# Altium schematic symbol library WE-FCL.SchLib: 6 symbols
Pins are listed as number, name and electrical type; pins without a type are passive.

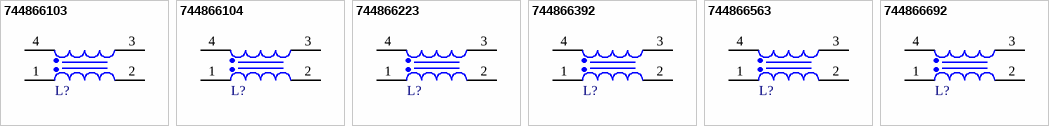
[diagram p0: symbols 744866103 to 744866692]

## 744866103
designator L?, comment 10mH  (value not drawn)
WE-FCL THT Common Mode Power Line Choke, ET35, 10mH, 3.4A, 110mΩ; Manufacturer Part Number: 744866103; Manufacturer: Wurth Elektronik; Insulation Test Voltage (AC): 1500V; Material: MnZn; Rated Voltage (AC): 250V; ComponentLink1Description: Manufacturer Link; ComponentLink1URL: https://www.we-online.com/redexpert/article/744866103?ad; ComponentLink2Description: Datasheet; ComponentLink2URL: https://www.we-online.com/redexpert/spec/744866103?ad; Category: Common Mode Chokes; Match Code: WE-FCL; Mount: Through Hole; Operating Temperature Max: 125°C; Operating Temperature Min: -40°C; Packaging: Tray; Case/Size Code: ET35; Length: 37mm; Width: 26mm; Height: 45mm; DC Resistance Max: 110mΩ; Inductance: 10mH; Rated Current: 3.4A
footprint WE-FCL_ET35
pins: 1, 2, 3, 4

## 744866104
designator L?, comment 100mH  (value not drawn)
WE-FCL THT Common Mode Power Line Choke, ET35, 100mH, 1.25A, 900mΩ; Manufacturer Part Number: 744866104; Manufacturer: Wurth Elektronik; Insulation Test Voltage (AC): 1500V; Material: MnZn; Rated Voltage (AC): 250V; ComponentLink1Description: Manufacturer Link; ComponentLink1URL: https://www.we-online.com/redexpert/article/744866104?ad; ComponentLink2Description: Datasheet; ComponentLink2URL: https://www.we-online.com/redexpert/spec/744866104?ad; Category: Common Mode Chokes; Match Code: WE-FCL; Mount: Through Hole; Operating Temperature Max: 125°C; Operating Temperature Min: -40°C; Packaging: Tray; Case/Size Code: ET35; Length: 37mm; Width: 26mm; Height: 45mm; DC Resistance Max: 900mΩ; Inductance: 100mH; Rated Current: 1.25A
footprint WE-FCL_ET35
pins: 1, 2, 3, 4

## 744866223
designator L?, comment 22mH  (value not drawn)
WE-FCL THT Common Mode Power Line Choke, ET35, 22mH, 2.5A, 200mΩ; Manufacturer Part Number: 744866223; Manufacturer: Wurth Elektronik; Insulation Test Voltage (AC): 1500V; Material: MnZn; Rated Voltage (AC): 250V; ComponentLink1Description: Manufacturer Link; ComponentLink1URL: https://www.we-online.com/redexpert/article/744866223?ad; ComponentLink2Description: Datasheet; ComponentLink2URL: https://www.we-online.com/redexpert/spec/744866223?ad; Category: Common Mode Chokes; Match Code: WE-FCL; Mount: Through Hole; Operating Temperature Max: 125°C; Operating Temperature Min: -40°C; Packaging: Tray; Case/Size Code: ET35; Length: 37mm; Width: 26mm; Height: 45mm; DC Resistance Max: 200mΩ; Inductance: 22mH; Rated Current: 2.5A
footprint WE-FCL_ET35
pins: 1, 2, 3, 4

## 744866392
designator L?, comment 3.9mH  (value not drawn)
WE-FCL THT Common Mode Power Line Choke, ET35, 3.9mH, 5A, 50mΩ; Manufacturer Part Number: 744866392; Manufacturer: Wurth Elektronik; Insulation Test Voltage (AC): 1500V; Material: MnZn; Rated Voltage (AC): 250V; ComponentLink1Description: Manufacturer Link; ComponentLink1URL: https://www.we-online.com/redexpert/article/744866392?ad; ComponentLink2Description: Datasheet; ComponentLink2URL: https://www.we-online.com/redexpert/spec/744866392?ad; Category: Common Mode Chokes; Match Code: WE-FCL; Mount: Through Hole; Operating Temperature Max: 125°C; Operating Temperature Min: -40°C; Packaging: Tray; Case/Size Code: ET35; Length: 37mm; Width: 26mm; Height: 45mm; DC Resistance Max: 50mΩ; Inductance: 3.9mH; Rated Current: 5A
footprint WE-FCL_ET35
pins: 1, 2, 3, 4

## 744866563
designator L?, comment 56mH  (value not drawn)
WE-FCL THT Common Mode Power Line Choke, ET35, 56mH, 1.5A, 530mΩ; Manufacturer Part Number: 744866563; Manufacturer: Wurth Elektronik; Insulation Test Voltage (AC): 1500V; Material: MnZn; Rated Voltage (AC): 250V; ComponentLink1Description: Manufacturer Link; ComponentLink1URL: https://www.we-online.com/redexpert/article/744866563?ad; ComponentLink2Description: Datasheet; ComponentLink2URL: https://www.we-online.com/redexpert/spec/744866563?ad; Category: Common Mode Chokes; Match Code: WE-FCL; Mount: Through Hole; Operating Temperature Max: 125°C; Operating Temperature Min: -40°C; Packaging: Tray; Case/Size Code: ET35; Length: 37mm; Width: 26mm; Height: 45mm; DC Resistance Max: 530mΩ; Inductance: 56mH; Rated Current: 1.5A
footprint WE-FCL_ET35
pins: 1, 2, 3, 4

## 744866692
designator L?, comment 6.9mH  (value not drawn)
WE-FCL THT Common Mode Power Line Choke, ET35, 6.9mH, 4A, 68mΩ; Manufacturer Part Number: 744866692; Manufacturer: Wurth Elektronik; Insulation Test Voltage (AC): 1500V; Material: MnZn; Rated Voltage (AC): 250V; ComponentLink1Description: Manufacturer Link; ComponentLink1URL: https://www.we-online.com/redexpert/article/744866692?ad; ComponentLink2Description: Datasheet; ComponentLink2URL: https://www.we-online.com/redexpert/spec/744866692?ad; Category: Common Mode Chokes; Match Code: WE-FCL; Mount: Through Hole; Operating Temperature Max: 125°C; Operating Temperature Min: -40°C; Packaging: Tray; Case/Size Code: ET35; Length: 37mm; Width: 26mm; Height: 45mm; DC Resistance Max: 68mΩ; Inductance: 6.9mH; Rated Current: 4A
footprint WE-FCL_ET35
pins: 1, 2, 3, 4